# EAGLE library part LCD_800X480 (library displays)
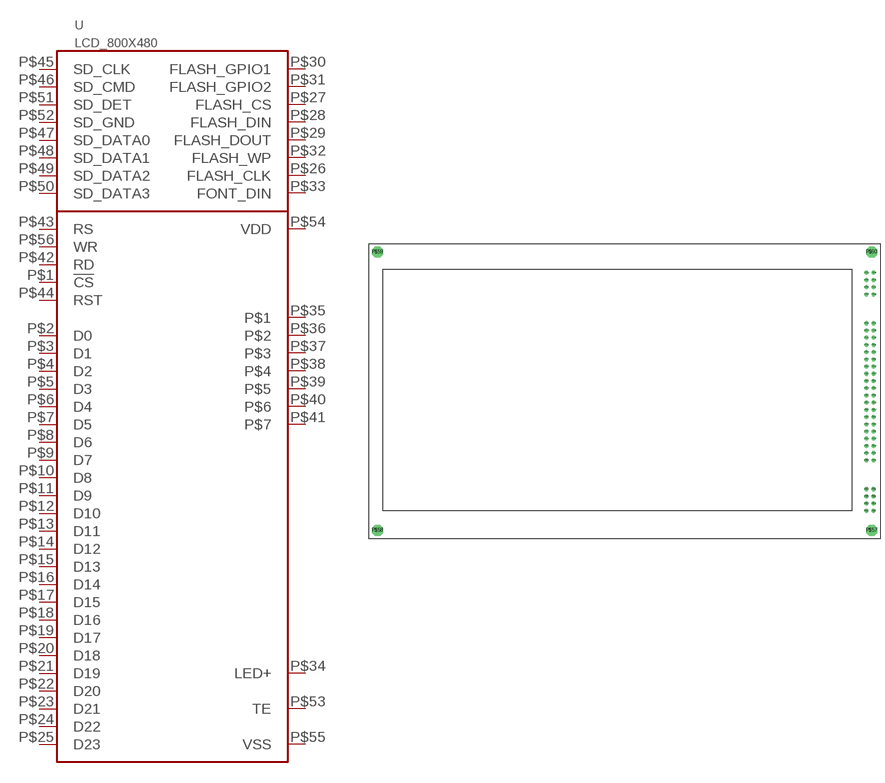
[diagram p6: symbol with the pads of LCD_800X480; footprint LCD_800X480]

Designator prefix -

## LCD_800X480  [LCD_800X480]
P$1  !CS
P$2  D0
P$3  D1
P$4  D2
P$5  D3
P$6  D4
P$7  D5
P$8  D6
P$9  D7
P$10  D8
P$11  D9
P$12  D10
P$13  D11
P$14  D12
P$15  D13
P$16  D14
P$17  D15
P$18  D16
P$19  D17
P$20  D18
P$21  D19
P$22  D20
P$23  D21
P$24  D22
P$25  D23
P$26  FLASH_CLK
P$27  FLASH_CS
P$28  FLASH_DIN
P$29  FLASH_DOUT
P$30  FLASH_GPIO1
P$31  FLASH_GPIO2
P$32  FLASH_WP
P$33  FONT_DIN
P$34  LED+
P$35  P$1
P$36  P$2
P$37  P$3
P$38  P$4
P$39  P$5
P$40  P$6
P$41  P$7
P$42  RD
P$43  RS
P$44  RST
P$45  SD_CLK
P$46  SD_CMD
P$47  SD_DATA0
P$48  SD_DATA1
P$49  SD_DATA2
P$50  SD_DATA3
P$51  SD_DET
P$52  SD_GND
P$53  TE
P$54  VDD
P$55  VSS
P$56  WR

## Footprint LCD_800X480 (pad centres in mm)
drill 0.6 pad 1.422 octagon: P$1 87.63,-38.1; P$2 90.17,-38.1; P$3 87.63,-35.56; P$4 90.17,-35.56; P$5 87.63,-33.02; P$6 90.17,-33.02; P$7 87.63,-30.48; P$8 90.17,-30.48; P$9 87.63,-20.32; P$10 90.17,-20.32; P$11 87.63,-17.78; P$12 90.17,-17.78; P$13 87.63,-15.24; P$14 90.17,-15.24; P$15 87.63,-12.7; P$16 90.17,-12.7; P$17 87.63,-10.16; P$18 90.17,-10.16; P$19 87.63,-7.62; P$20 90.17,-7.62; P$21 87.63,-5.08; P$22 90.17,-5.08; P$23 87.63,-2.54; P$24 90.17,-2.54; P$25 87.63,0; P$26 90.17,0; P$27 87.63,2.54; P$28 90.17,2.54; P$29 87.63,5.08; P$30 90.17,5.08; P$31 87.63,7.62; P$32 90.17,7.62; P$33 87.63,10.16; P$34 90.17,10.16; P$35 87.63,12.7; P$36 90.17,12.7; P$37 87.63,15.24; P$38 90.17,15.24; P$39 87.63,17.78; P$40 90.17,17.78; P$41 87.63,20.32; P$42 90.17,20.32; P$43 87.63,22.86; P$44 90.17,22.86; P$45 87.63,25.4; P$46 90.17,25.4; P$47 87.63,27.94; P$48 90.17,27.94; P$49 90.17,38.1; P$50 87.63,38.1; P$51 87.63,40.64; P$52 90.17,40.64; P$53 87.63,43.18; P$54 90.17,43.18; P$55 87.63,45.72; P$56 90.17,45.72
drill 3 pad 4 octagon: P$57 89.5,-45; P$58 -84.5,-45; P$59 -84.5,53; P$60 89.5,53